# Altium schematic symbol library Passive Component.SchLib: 38 symbols
Pins are listed as number, name and electrical type; pins without a type are passive.

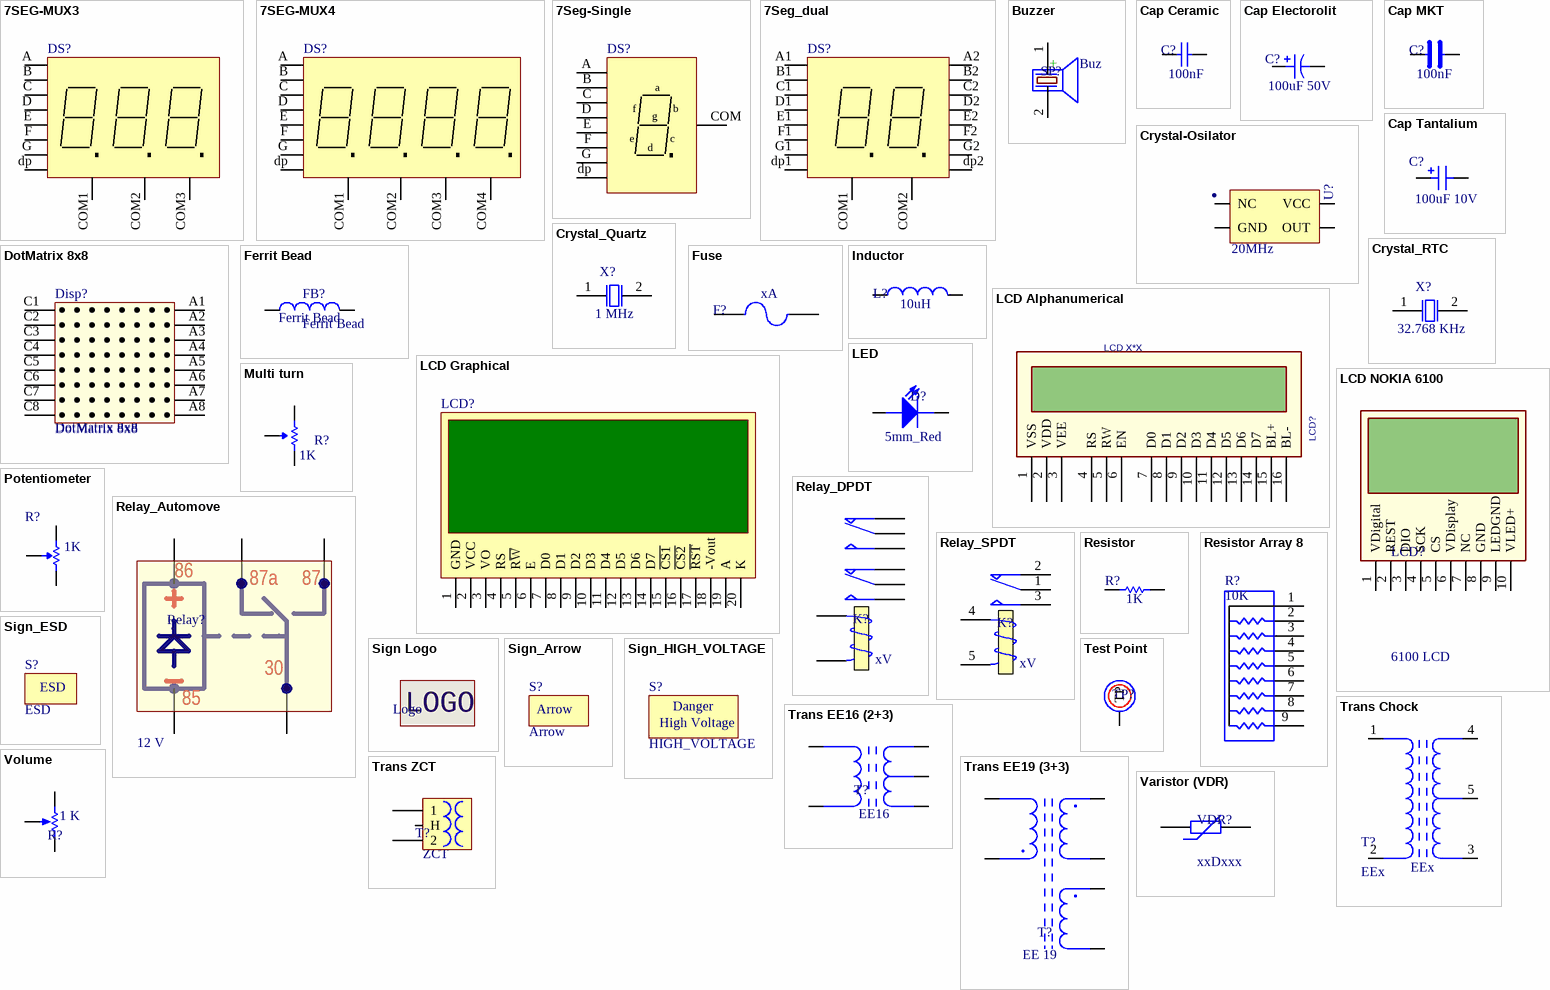
[diagram p0: symbols 7SEG-MUX3 to Volume]

## 7SEG-MUX3
designator DS?
footprint 7SEG-mux3
pins: A, B, C, COM1, COM2, COM3, D, dp, E, F, G

## 7SEG-MUX4
designator DS?
footprint 7SEG-mux4
pins: A, B, C, COM1, COM2, COM3, COM4, D, dp, E, F, G

## 7Seg-Single
designator DS?  (value not drawn)
footprint 7SEG-SINGLE
pins: A, B, C, COM VCC, D, dp, E, F, G
2 alternate drawings of the same symbol

## 7Seg_dual
designator DS?
footprint 7SEG-DUAL
pins: A1, A2, B1, B2, C1, C2, COM1, COM2, D1, D2, dp1, dp2, E1, E2, F1, F2, G1, G2

## Buzzer
designator SP?, comment Buz
Speaker with (AX)/without (A) frequency grnerator; Value: Buz
footprint Buzzer
footprint Buzzer_14x7.5
pins: 1 +, 2 -

## Cap Ceramic
designator C?, comment 100nF
Cap Ceramic; VALUE: 100nF
footprint CAP0201 (Chip Capacitor, 2-Leads, Body 0/60x0/30mm, IPC Medium Density DESIGNER:ABBAS BASEREH)
footprint CAP0402 (Chip Capacitor, 2-Leads, Body 1/00x0/50mm, IPC Medium Density DESIGNER:ABBAS BASEREH)
footprint CAP0603 (Chip Capacitor, 2-Leads, Body 1/60x0/80mm, IPC Medium Density DESIGNER:ABBAS BASEREH)
footprint CAP0805 (Chip Capacitor, 2-Leads, Body 2/00x1/25mm, IPC Medium Density DESIGNER:ABBAS BASEREH)
footprint CAP1206 (Chip Capacitor, 2-Leads, Body 3/20x1/60mm, IPC Medium Density DESIGNER:ABBAS BASEREH)
footprint CAP1210 (Chip Capacitor, 2-Leads, Body 3/20x2/50mm, IPC Medium Density DESIGNER:ABBAS BASEREH)
footprint CAP1812 (Chip Capacitor, 2-Leads, Body 4/50x3/20mm, IPC Medium Density DESIGNER:ABBAS BASEREH)
footprint CAP2010 (Chip Capacitor, 2-Leads, Body 5/00x2/50mm, IPC Medium Density DESIGNER:ABBAS BASEREH)
footprint CAP2512 (Chip Capacitor, 2-Leads, Body 6/40x3/20mm, IPC Medium Density DESIGNER:ABBAS BASEREH)
footprint CAPC3413X12N (Chip Capacitor, 2-Leads, Body 3/40x1/30mm, IPC Medium Density-Design:Abbas Basereh)
footprint CAPC4817X12N (Chip Capacitor, 2-Leads, Body 4/80x1/70mm, IPC Medium Density-Design:Abbas Basereh)
footprint Cap 100nF
footprint CAP 100NF Disk
footprint CAP - 100nF - 275V (100N 275V)
footprint Cap - 10nF - 630V
footprint Cap - 100nF - 400V
footprint Cap - 220n - 400V - Poly
footprint Cap - 330nF - 400V
footprint Cap - 680nF
footprint Cap_HV 3kV norm
footprint Cap_HV 5
pins: 1, 2

## Cap Electorolit
designator C?, comment 100uF 50V
Cap Electrolitic; VALUE: 100uF 50V
footprint Radial 5x11-2 (Cap electrolitic radial 5x11-2-Design:Abbas Basereh)
footprint Radial 5x12-2 (Cap electrolitic radial 5x12-2-Design:Abbas Basereh)
footprint Radial 6x7-2.5 (Cap electrolitic radial 6x7-2.5-Design:Abbas Basereh)
footprint Radial 8x12-3.5 (Cap electrolitic radial 8x12-3.5-Design:Abbas Basereh)
footprint Radial 8x14-3.5 (Cap electrolitic radial 8x14-3.5-Design:Abbas Basereh)
footprint Radial 10x16-5 (Cap electrolitic radial 10x16-5-Design:Abbas Basereh)
footprint Radial 10x20-5 (Cap electrolitic radial 10x20-5-Design:Abbas Basereh)
footprint Radial 10x25-5 (Cap electrolitic radial 10x25-5-Design:Abbas Basereh)
footprint Radial 10x30-5 (Cap electrolitic radial 10x30-5-Design:Abbas Basereh)
footprint Radial 12.5x20-5 (Cap electrolitic radial 12.5x20-5-Design:Abbas Basereh)
footprint Radial 12.5x25-5 (Cap electrolitic radial 12.5x25-5-Design:Abbas Basereh)
footprint Radial 13x25-5 (Cap electrolitic radial 13x25-5-Design:Abbas Basereh)
footprint Radial 16x26-7.5 (Cap electrolitic radial 16x26-7.5-Design:Abbas Basereh)
footprint Radial 16x31.5-7.5 (Cap electrolitic radial 16x31.5-7.5-Design:Abbas Basereh)
footprint Radial 18x26 (Cap electrolitic radial 18x26-Design:Abbas Basereh)
footprint Radial 18x36-7.5 (Cap electrolitic radial 18x36-7.5-Design:Abbas Basereh)
footprint Radial 18x40-7.5 (Cap electrolitic radial 18x40-7.5-Design:Abbas Basereh)
footprint CaseA (3*5.4) (Electrolytic Capacitor SMD Case)
footprint CaseB(4*5.4) (Electrolytic Capacitor SMD Case)
footprint CaseC(5*5.4) (Electrolytic Capacitor SMD Case)
footprint CaseD8(6.3*8) (Electrolytic Capacitor SMD Case)
footprint CaseD(6.3*5.4) (Electrolytic Capacitor SMD Case)
footprint CaseE(8*6.2) (Electrolytic Capacitor SMD Case)
footprint CaseF(8*10.2) (Electrolytic Capacitor SMD Case)
footprint CaseG(10*10.2) (Electrolytic Capacitor SMD Case)
pins: 1, 2
1 alternate drawing of the same symbol

## Cap MKT
designator C?, comment 100nF
Cap MKT; VALUE: 100nF
footprint Cap_yellow
pins: 0 2, 1

## Cap Tantalium
designator C?, comment 100uF 10V
Cap Tantalium; Value: 100uF 10V
footprint CT_2917 (7343H_CaseE)
footprint CT_2916 (7343_CaseD)
footprint CT_2412 (6032_CaseC)
footprint CT_1411 (3528_CaseB)
footprint CT_1411 (3216_CaseA)
pins: 1, 2

## Crystal-Osilator
designator U?, comment 20MHz
Oslilator; Value: 20MHz
footprint Xtal-OSC
footprint Xtal-OSC SMD
footprint Xtal-OSC-Small (Footprint not found)
pins: 1 NC, 7 GND, 8 OUT, 14 VCC
text: .

## Crystal_Quartz
designator X?, comment 1 MHz
Quartz; Value: 1 MHz
footprint Crystal SMD (DESIGNER ABBAS BASEREH)
footprint CRYSTAL Small (DESIGNER ABBAS BASEREH)
pins: 1 OSC1, 2 OSC2

## Crystal_RTC
designator X?, comment 32.768 KHz
RTC; Value: 32.768 KHz
footprint Crystal-BCY-W2/D3.1 l
footprint Crystal-BCY-W2/D3.1 (Crystal, Thru-Hole; 2 Leads; Body 3.1 x 8.2 mm (Dia.xH))
footprint Crystal-BCY-W2/D1.5 (Crystal, Thru-Hole; 2 Leads; Body 1.5 x 5.1 mm (Dia.xH))
pins: 1 OSC1, 2 OSC2

## DotMatrix 8x8
designator Disp?
Value: DotMatrix 8x8
footprint Matrix8x8-60mm
footprint Matrix8x8-38mm
pins: A1, A2, A3, A4, A5, A6, A7, A8, C1 C, C2 C, C3 C, C4 C, C5 C, C6 C, C7 C, C8 C

## Ferrit Bead
designator FB?
Value: Ferrit Bead
footprint 0402 Ferrit Bead
footprint 0603 Ferrit Bead
footprint 0805 Ferrit Bead
footprint 1206 Ferrit Bead
footprint 3030 Ferrit 2.2uH
pins: 1, 2

## Fuse
designator F?, comment xA
Fuses 5x20 with holdeer pins; Value: xA
footprint Fuse 5x20 With holder pin (Dsigner : Abbas Basereh)
footprint FUSE_2
footprint FUSE_Box
footprint Fuse_0805
footprint Fuse_1206
footprint FUSE_1812
pins: 1, 2

## Inductor
designator L?, comment 10uH
Inductor; Value: 10uH
footprint L_0805 (Inductor Pattern)
footprint Inductor 10x12 (200 mils) (POWER INDUCTOR 10x12 (200 mils) DESIGNER ABBAS BASEREH)
footprint Inductor Iron
footprint L_Axial  (1/4)
footprint L_Axial  (1/8)
footprint CDRH127
footprint L_1206 (Chip Inductor, 2-Leads, Body 3/20x1/60mm, IPC Medium Density DESIGNER:ABBAS BASEREH)
footprint CDRH74
pins: 1, 2

## LCD Alphanumerical
designator LCD?, comment LCD X*X
2 X 16 _ 4 X 20; Value: LCD X*X
footprint LCD 4*20
footprint LCD 2*16 (LCD)
footprint LCD 2*16 With Spacer (LCD 2x16 Alphanumberic)
footprint LCD 4*20 with spacer
pins: 1 VSS, 2 VDD, 3 VEE, 4 RS, 5 RW, 6 EN, 7 D0, 8 D1, 9 D2, 10 D3, 11 D4, 12 D5, 13 D6, 14 D7, 15 BL+, 16 BL-

## LCD Graphical
designator LCD?
128 X 64
footprint LCDG-128*64
pins: 1 GND, 2 VCC, 3 VO, 4 RS, 5 R~{W}, 6 E, 7 D0, 8 D1, 9 D2, 10 D3, 11 D4, 12 D5, 13 D6, 14 D7, 15 ~{CS1}, 16 ~{CS2}, 17 ~{RST}, 18 -Vout, 19 A, 20 K

## LCD NOKIA 6100
designator LCD?, comment 6100 LCD
NOKIA 6100 LCD; Value: 6100 LCD
footprint LCD_NOKIA6100
pins: 1 VDigital, 2 REST, 3 DIO, 4 SCK, 5 CS, 6 VDisplay, 7 NC, 8 GND, 9 LEDGND, 10 VLED+

## LED
designator D?, comment 5mm_Red
Typical INFRARED GaAs LED; Value: 5mm_Red
footprint LED_3mm
footprint LED_5mm
footprint LED_0805
footprint LED_1206
pins: A, K

## Multi turn
designator R?  value 1K  (hidden comment: Multi turn)
Potentiometer; Sim Note: Enter the Resistance value and the set point into parameter fields.; Set Position: 0.5; Published: 8-Jun-2000; LatestRevisionDate: 17-Jul-2002; LatestRevisionNote: Re-released for DXP Platform.; PackageReference: VR5; Publisher: Altium Limited
footprint Multi turn 1
footprint Multi turn 2
footprint Multi turn 3
pins: 1 TOP, 2 TAP, 3 BOT
1 alternate drawing of the same symbol

## Potentiometer
designator R?, comment 1K
Potentiometer; Set Position: 0.5; Published: 8-Jun-2000; LatestRevisionDate: 17-Jul-2002; LatestRevisionNote: Re-released for DXP Platform.; PackageReference: AXIAL-0.7; Publisher: Altium Limited; PackageDescription: Axial Device, Thru-Hole; 2 Leads; 0.7 in Pin Spacing; Value: 1K
footprint POT 1 (Trimmer)
footprint Pot 2 (Trimmer)
footprint POT 3 (Trimmer)
pins: 1, 2, 3

## Relay_Automove
designator Relay?, comment 12 V
Relay SONGLE SLD_12VDC-1C; Value: 12 V
footprint SONGLE SLD_12VDC-1C (Relay SONGLE SLD_12VDC-1C)
pins: 30, 85, 86, 87 ~{}, 87a

## Relay_DPDT
designator K?, comment xV
Dual-Pole Dual-Throw Relay_Milon; Value: xV
footprint Relay 20.66x9.77x11.95
pins: 1 COM, 2 NC, 3 NO, 4 T1, 5 T2, 7 COM, 8 NC, 9 NO

## Relay_SPDT
designator K?, comment xV
Single-Pole Dual-Throw Relay_Milon; Value: xV
footprint Relay 18.85x15.35x15.70 (DESIGNER ABBAS BASEREH)
footprint Mini Milon
footprint OMRON 8Pin Relay
footprint Relay Needle 31.7x26.7x28 (DESIGNER ABBAS BASEREH)
footprint TIANBO (TIANBO Reaky TR5V L-S-Z)
footprint NT90TN
pins: 1 COM, 2 NC, 3 NO, 4 T1, 5 T2

## Resistor
designator R?, comment 1K
Resistor Generic; Value: 1K
footprint Axial 0.125W
footprint Axial 0.25W
footprint Axial 0.25W stand
footprint Axial 0.5W
footprint Axial 0.6_1W
footprint Axial 0.8_2W
footprint Axial 1W Stand
footprint Axial 1.2_5W
footprint Axial 2_10W
footprint Axial 5W Stand
footprint Axial 0.5W stand
footprint RES0201 (Chip Resistor, 2-Leads, Body 0/60x0/30mm, IPC Medium Density DESIGNER:ABBAS BASEREH)
footprint RES0402 (Chip Resistor, 2-Leads, Body 1/00x0/50mm, IPC Medium Density DESIGNER:ABBAS BASEREH)
footprint RES0603 (Chip Resistor, 2-Leads, Body 1/60x0/80mm, IPC Medium Density DESIGNER:ABBAS BASEREH)
footprint RES0805 (Chip Resistor, 2-Leads, Body 2/00x1/25mm, IPC Medium Density DESIGNER:ABBAS BASEREH)
footprint RES1206 (Chip Resistor, 2-Leads, Body 3/20x1/60mm, IPC Medium Density DESIGNER:ABBAS BASEREH)
footprint RES1210 (Chip Resistor, 2-Leads, Body 3/20x2/50mm, IPC Medium Density DESIGNER:ABBAS BASEREH)
footprint RES1812 (Chip Resistor, 2-Leads, Body 4/50x3/20mm, IPC Medium Density DESIGNER:ABBAS BASEREH)
footprint RES2010 (Chip Resistor, 2-Leads, Body 5/00x2/50mm, IPC Medium Density DESIGNER:ABBAS BASEREH)
footprint RES2512 (Chip Resistor, 2-Leads, Body 6/40x3/20mm, IPC Medium Density DESIGNER:ABBAS BASEREH)
footprint RESC3413X04N (Chip Resistor, 2-Leads, Body 3/40x1/30mm, IPC Medium Density-Design:Abbas Basereh)
footprint RESC4817X04N (Chip Resistor, 2-Leads, Body 4/80x1/70mm, IPC Medium Density-Design:Abbas Basereh)
pins: 1, 2

## Resistor Array 8
designator R?, comment 10K
Array Resistor-Include 8 RES; Designer: M.Amani; LastRevisionDate: 2007; Publisher: Kosha Electronic Limited; PublisherLinkURL: http://www.koshanic.com; PackageReference: ResArray-8; Value: 10K
footprint Res Array 8
pins: 1, 2, 3, 4, 5, 6, 7, 8, 9

## Sign Logo
designator Logo, comment Logo  (value not drawn)  (no BOM)
Company: E.P.I.L; Design Date: 11/6/2011; Value: Logo
footprint LOGO SPEAKER
footprint LOGO USB
footprint LOGO ALARM
footprint LOGO ESD (Electrostatic Sensiving Device)
footprint LOGO RESET
footprint LOGO B1-B
footprint LOGO B1-S
footprint SAZ-B
footprint SAZ-S
text: LOGO

## Sign_Arrow
designator S?, comment Arrow
footprint Arrow

## Sign_ESD
designator S?, comment ESD
footprint ESD

## Sign_HIGH_VOLTAGE
designator S?, comment HIGH_VOLTAGE
footprint HIGH VOLTAGE
text: Danger; High Voltage

## Test Point
designator TP?  (value not drawn)
Test Point, variable footprint
footprint ROUND_SMD_D0.5_MM
footprint ROUND_SMD_D1.0_MM
pins: 1 TP

## Trans Chock
designator T?, comment EEx
Transformer 1:1 600ohm; Value: EEx
footprint EE16-(3+2) (EE166)
pins: 1, 2, 3, 4, 5

## Trans EE16 (2+3)
designator T?, comment EE16
transformer EE16-Frrite Core; Value: EE16
footprint EE16-(3+2) (EE166)
pins: 1, 2, 3, 4, 5

## Trans EE19 (3+3)
designator T?, comment EE 19
transformer EE19-Frrite Core; Value: EE 19
footprint EE19-(3+3)
pins: 1, 2, 3, 4, 5, 6

## Trans ZCT
designator T?, comment ZCT
Current Trans_ZCT_1:1000; Value: ZCT
footprint ZCT 1:1000
pins: 1, 2, H

## Varistor (VDR)
designator VDR?, comment xxDxxx
VALUE: xxDxxx
footprint 05D XXX (MOV-05DxxxK Metal Oxide Varistors (MOVs) are 5 mm-Design:Abbas Basereh)
footprint 07D XXX (MOV-07DxxxK Metal Oxide Varistors (MOVs) are 7 mm-Design:Abbas Basereh)
footprint 10D XXX (MOV-10DxxxK Metal Oxide Varistors (MOVs) are 10 mm-Design:Abbas Basereh)
footprint 14D XXX (MOV-14DxxxK Metal Oxide Varistors (MOVs) are 14 mm-Design:Abbas Basereh)
footprint 20D XXX (MOV-20DxxxK Metal Oxide Varistors (MOVs) are 20 mm-Design:Abbas Basereh)
footprint 23D XXX (MOV-23DxxxK Metal Oxide Varistors (MOVs) are 23 mm-Design:Abbas Basereh)
pins: 1, 2

## Volume
designator R?, comment 1 K
Potentiometer; Value: 1 K
footprint Volume 1 (Voloume)
footprint Volume 2
footprint Volume 3 (Volume Right)
pins: 1 TOP, 2 TAP, 3 BOT